# Altium footprint library spd1502.PcbLib: 80 footprints (part 1 of 5)
Each footprint in its own frame and in the unit in brackets; x right, y up, seen from the top. Pads: shape width x height; smd on the part's side, far side on the other; paste and mask are expansions set on the pad; w line width, h text height; cw(c..) or ccw(c..) is an arc to the next point about the centre after c.
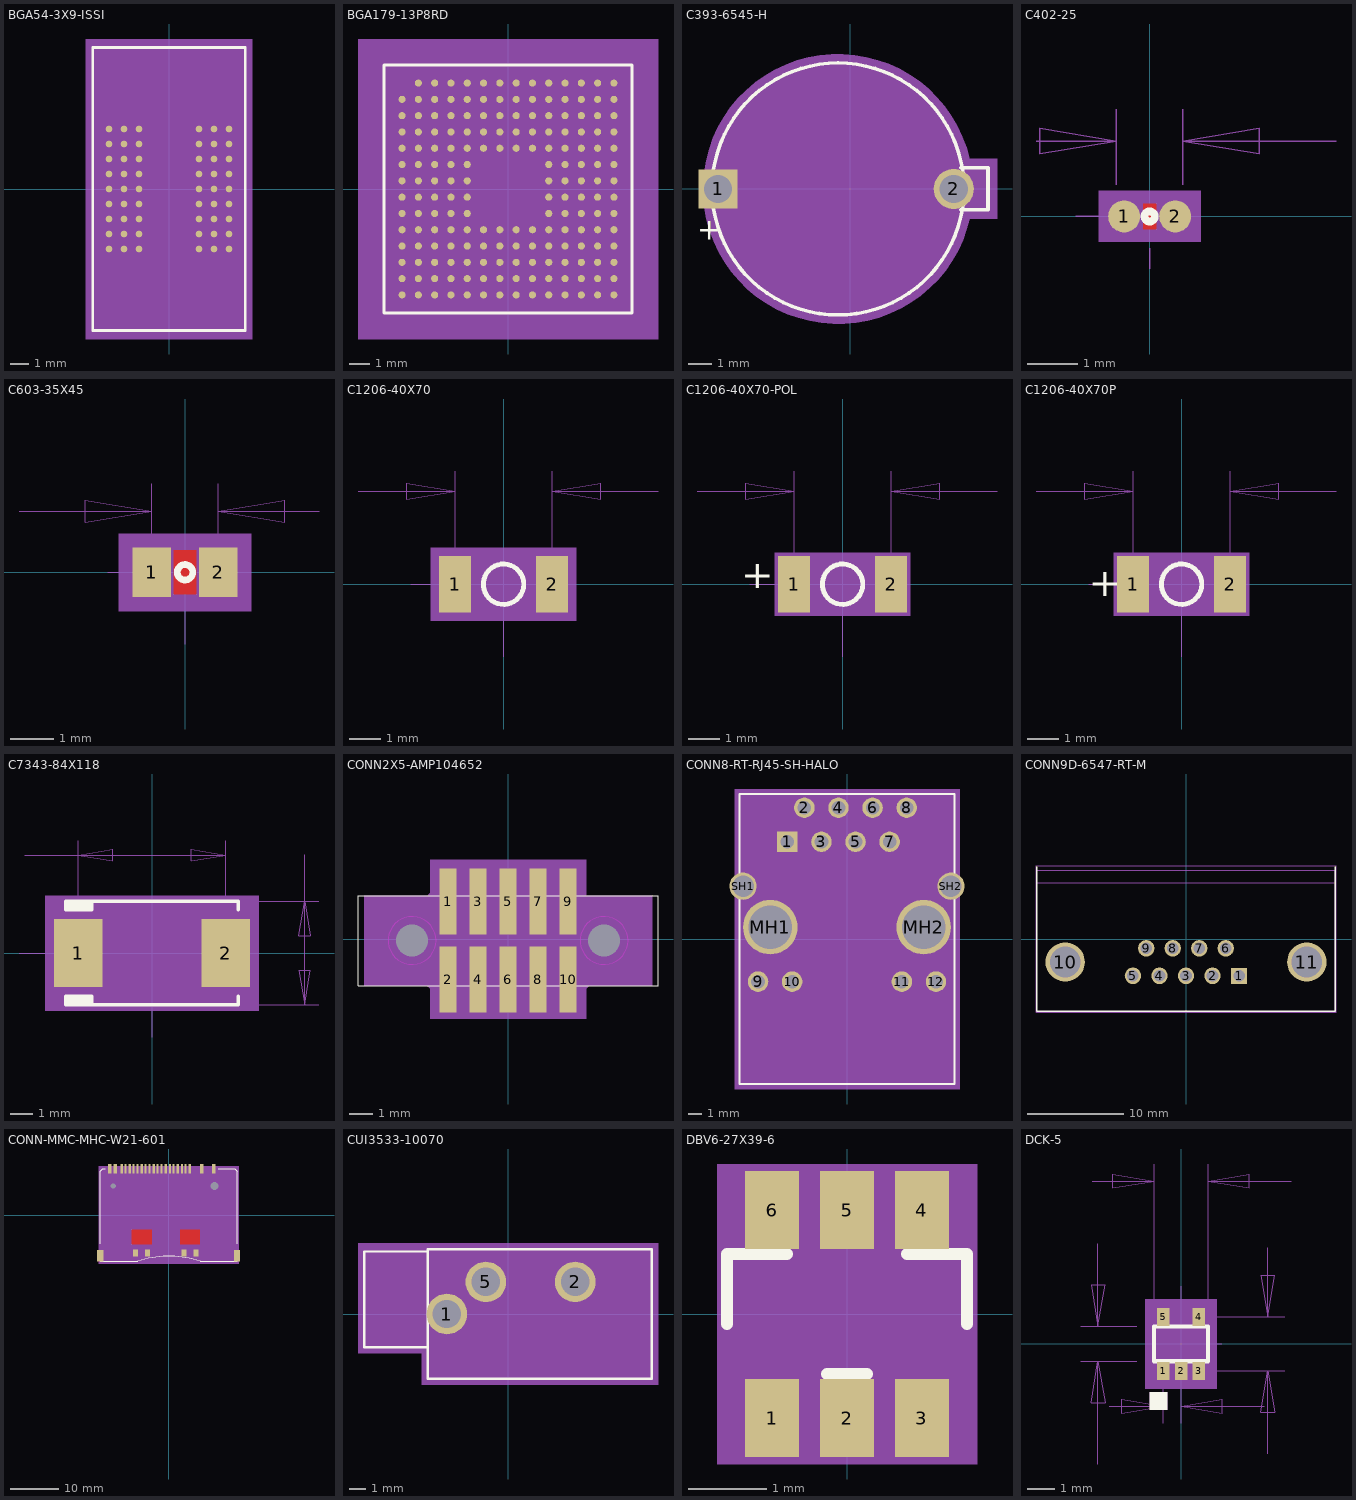
[diagram p0: the footprints below, top view; thin cyan lines are the x and y axes]

## BGA54-3X9-ISSI [mil] "BGA54-3X9-ISSI"
pads (54):
  round 13.8 smd: A1(-126,126) A2(-94.5,126) A3(-63,126) A7(63,126) A8(94.5,126) A9(126,126) B1(-126,94.5) B2(-94.5,94.5) B3(-63,94.5) B7(63,94.5) B8(94.5,94.5) B9(126,94.5) C1(-126,63) C2(-94.5,63) C3(-63,63) C7(63,63) C8(94.5,63) C9(126,63) D1(-126,31.5) D2(-94.5,31.5) D3(-63,31.5) D7(63,31.5) D8(94.5,31.5) D9(126,31.5) E1(-126,0) E2(-94.5,0) E3(-63,0) E7(63,0) E8(94.5,0) E9(126,0) F1(-126,-31.5) F2(-94.5,-31.5) F3(-63,-31.5) F7(63,-31.5) F8(94.5,-31.5) F9(126,-31.5) G1(-126,-63) G2(-94.5,-63) G3(-63,-63) G7(63,-63) G8(94.5,-63) G9(126,-63) H1(-126,-94.5) H2(-94.5,-94.5) H3(-63,-94.5) H7(63,-94.5) H8(94.5,-94.5) H9(126,-94.5) J1(-126,-126) J2(-94.5,-126) J3(-63,-126) J7(63,-126) J8(94.5,-126) J9(126,-126)
Top Overlay:
  lines w6: -160,-297 160,-297 160,297 -160,297 -160,-297
  text ".Designator" at 45,354.9 h35
Mechanical 15:
  text "J9" at 126,-142 h20
  text "A9" at 126,110 h20
  text "C7" at 63,47 h20
  text "E7" at 63,-16 h20
  text "D3" at -63,15.5 h20
  text "B3" at -63,78.5 h20
  text "A7" at 63,110 h20
  text "H3" at -63,-110.5 h20
  text "H2" at -94.5,-110.5 h20
  text "H1" at -126,-110.5 h20
  text "G3" at -63,-79 h20
  text "F1" at -126,-47.5 h20
  text "H9" at 126,-110.5 h20
  text "G2" at -94.5,-79 h20
  text "F2" at -94.5,-47.5 h20
  text "G7" at 63,-79 h20
  text "F8" at 94.5,-47.5 h20
  text "F9" at 126,-47.5 h20
  text "G8" at 94.5,-79 h20
  text "G9" at 126,-79 h20
  text "H8" at 94.5,-110.5 h20
  text "H7" at 63,-110.5 h20
  text "J8" at 94.5,-142 h20
  text "E8" at 94.5,-16 h20
  text "F3" at -63,-47.5 h20
  text "J7" at 63,-142 h20
  text "J3" at -63,-142 h20
  text "J2" at -94.5,-142 h20
  text "G1" at -126,-79 h20
  text "F7" at 63,-47.5 h20
  text "D8" at 94.5,15.5 h20
  text "B2" at -94.5,78.5 h20
  text "C1" at -126,47 h20
  text "C2" at -94.5,47 h20
  text "D1" at -126,15.5 h20
  text "E1" at -126,-16 h20
  text "E9" at 126,-16 h20
  text "D9" at 126,15.5 h20
  text "A2" at -94.5,110 h20
  text "B1" at -126,78.5 h20
  text "D2" at -94.5,15.5 h20
  text "C8" at 94.5,47 h20
  text "C9" at 126,47 h20
  text "B8" at 94.5,78.5 h20
  text "B9" at 126,78.5 h20
  text "A8" at 94.5,110 h20
  text "D7" at 63,15.5 h20
  text "C3" at -63,47 h20
  text "B7" at 63,78.5 h20
  text "J1" at -126,-142 h20
  text "E3" at -63,-16 h20
  text "A1" at -126,110 h20
  text "A3" at -63,110 h20
  text "E2" at -94.5,-16 h20
Mechanical 16:
  region: 175,315 -175,315 -175,-315 175,-315
  lines w6: -160,-297 -160,297 160,297 160,-297 -160,-297

## BGA179-13P8RD [mil] "BGA179-13P8RD"
pads (179):
  round 13.8 smd: A2(-173.3,204.8) A3(-141.8,204.8) A4(-110.3,204.8) A5(-78.8,204.8) A6(-47.3,204.8) A7(-15.8,204.8) A8(15.8,204.8) A9(47.3,204.8) A10(78.8,204.8) A11(110.3,204.8) A12(141.8,204.8) A13(173.3,204.8) A14(204.8,204.8) B1(-204.8,173.3) B2(-173.3,173.3) B3(-141.8,173.3) B4(-110.3,173.3) B5(-78.8,173.3) B6(-47.3,173.3) B7(-15.8,173.3) B8(15.8,173.3) B9(47.3,173.3) B10(78.8,173.3) B11(110.3,173.3) B12(141.8,173.3) B13(173.3,173.3) B14(204.8,173.3) C1(-204.8,141.8) C2(-173.3,141.8) C3(-141.8,141.8) C4(-110.3,141.8) C5(-78.8,141.8) C6(-47.3,141.8) C7(-15.8,141.8) C8(15.8,141.8) C9(47.3,141.8) C10(78.8,141.8) C11(110.3,141.8) C12(141.8,141.8) C13(173.3,141.8) C14(204.8,141.8) D1(-204.8,110.3) D2(-173.3,110.3) D3(-141.8,110.3) D4(-110.3,110.3) D5(-78.8,110.3) D6(-47.3,110.3) D7(-15.8,110.3) D8(15.8,110.3) D9(47.3,110.3) D10(78.8,110.3) D11(110.3,110.3) D12(141.8,110.3) D13(173.3,110.3) D14(204.8,110.3) E1(-204.8,78.8) E2(-173.3,78.8) E3(-141.8,78.8) E4(-110.3,78.8) E5(-78.8,78.8) E6(-47.3,78.8) E7(-15.8,78.8) E8(15.8,78.8) E9(47.3,78.8) E10(78.8,78.8) E11(110.3,78.8) E12(141.8,78.8) E13(173.3,78.8) E14(204.8,78.8) F1(-204.8,47.3) F2(-173.3,47.3) F3(-141.8,47.3) F4(-110.3,47.3) F5(-78.8,47.3) F10(78.8,47.3) F11(110.3,47.3) F12(141.8,47.3) F13(173.3,47.3) F14(204.8,47.3) G1(-204.8,15.8) G2(-173.3,15.8) G3(-141.8,15.8) G4(-110.3,15.8) G5(-78.8,15.8) G10(78.8,15.8) G11(110.3,15.8) G12(141.8,15.8) G13(173.3,15.8) G14(204.8,15.8) H1(-204.8,-15.8) H2(-173.3,-15.8) H3(-141.8,-15.8) H4(-110.3,-15.8) H5(-78.8,-15.8) H10(78.8,-15.8) H11(110.3,-15.8) H12(141.8,-15.8) H13(173.3,-15.8) H14(204.8,-15.8) J1(-204.8,-47.3) J2(-173.3,-47.3) J3(-141.8,-47.3) J4(-110.3,-47.3) J5(-78.8,-47.3) J10(78.8,-47.3) J11(110.3,-47.3) J12(141.8,-47.3) J13(173.3,-47.3) J14(204.8,-47.3) K1(-204.8,-78.8) K2(-173.3,-78.8) K3(-141.8,-78.8) K4(-110.3,-78.8) K5(-78.8,-78.8) K6(-47.3,-78.8) K7(-15.8,-78.8) K8(15.8,-78.8) K9(47.3,-78.8) K10(78.8,-78.8) K11(110.3,-78.8) K12(141.8,-78.8) K13(173.3,-78.8) K14(204.8,-78.8) L1(-204.8,-110.3) L2(-173.3,-110.3) L3(-141.8,-110.3) L4(-110.3,-110.3) L5(-78.8,-110.3) L6(-47.3,-110.3) L7(-15.8,-110.3) L8(15.8,-110.3) L9(47.3,-110.3) L10(78.8,-110.3) L11(110.3,-110.3) L12(141.8,-110.3) L13(173.3,-110.3) L14(204.8,-110.3) M1(-204.8,-141.8) M2(-173.3,-141.8) M3(-141.8,-141.8) M4(-110.3,-141.8) M5(-78.8,-141.8) M6(-47.3,-141.8) M7(-15.8,-141.8) M8(15.8,-141.8) M9(47.3,-141.8) M10(78.8,-141.8) M11(110.3,-141.8) M12(141.8,-141.8) M13(173.3,-141.8) M14(204.8,-141.8) N1(-204.8,-173.3) N2(-173.3,-173.3) N3(-141.8,-173.3) N4(-110.3,-173.3) N5(-78.8,-173.3) N6(-47.3,-173.3) N7(-15.8,-173.3) N8(15.8,-173.3) N9(47.3,-173.3) N10(78.8,-173.3) N11(110.3,-173.3) N12(141.8,-173.3) N13(173.3,-173.3) N14(204.8,-173.3) P1(-204.8,-204.8) P2(-173.3,-204.8) P3(-141.8,-204.8) P4(-110.3,-204.8) P5(-78.8,-204.8) P6(-47.3,-204.8) P7(-15.8,-204.8) P8(15.8,-204.8) P9(47.3,-204.8) P10(78.8,-204.8) P11(110.3,-204.8) P12(141.8,-204.8) P13(173.3,-204.8) P14(204.8,-204.8)
Top Overlay:
  lines w6: -240,-240 -240,240 240,240 240,-240 -240,-240
  text ".Designator" at 200,-245 h35
Mechanical 15:
  text "H11" at 122.3,-15.8 h10
  text "L4" at -102.3,-110.3 h10
  text "K9" at 55.3,-78.8 h10
  text "M8" at 23.8,-141.8 h10
  text "P7" at -7.8,-204.8 h10
  text "P5" at -70.8,-204.8 h10
  text "K1" at -196.8,-78.8 h10
  text "H3" at -133.8,-15.8 h10
  text "G3" at -133.8,15.8 h10
  text "C3" at -133.8,141.8 h10
  text "H5" at -70.8,-15.8 h10
  text "J3" at -133.8,-47.3 h10
  text "E10" at 90.8,78.8 h10
  text "D5" at -70.8,110.3 h10
  text "E9" at 55.3,78.8 h10
  text "D7" at -7.8,110.3 h10
  text "A11" at 122.3,204.8 h10
  text "B10" at 90.8,173.3 h10
  text "C9" at 55.3,141.8 h10
  text "D10" at 90.8,110.3 h10
  text "B12" at 153.8,173.3 h10
  text "B4" at -102.3,173.3 h10
  text "F1" at -196.8,47.3 h10
  text "N2" at -165.3,-173.3 h10
  text "P2" at -165.3,-204.8 h10
  text "N1" at -196.8,-173.3 h10
  text "P1" at -196.8,-204.8 h10
  text "N9" at 55.3,-173.3 h10
  text "M3" at -133.8,-141.8 h10
  text "K5" at -70.8,-78.8 h10
  text "N10" at 90.8,-173.3 h10
  text "K4" at -102.3,-78.8 h10
  text "M5" at -70.8,-141.8 h10
  text "N14" at 216.8,-173.3 h10
  text "M13" at 185.3,-141.8 h10
  text "C2" at -165.3,141.8 h10
  text "B1" at -196.8,173.3 h10
  text "A2" at -165.3,204.8 h10
  text "E4" at -102.3,78.8 h10
  text "F4" at -102.3,47.3 h10
  text "B11" at 122.3,173.3 h10
  text "D11" at 122.3,110.3 h10
  text "C7" at -7.8,141.8 h10
  text "F11" at 122.3,47.3 h10
  text "C5" at -70.8,141.8 h10
  text "E5" at -70.8,78.8 h10
  text "B9" at 55.3,173.3 h10
  text "C11" at 122.3,141.8 h10
  text "E13" at 185.3,78.8 h10
  text "B14" at 216.8,173.3 h10
  text "E12" at 153.8,78.8 h10
  text "C13" at 185.3,141.8 h10
  text "K7" at -7.8,-78.8 h10
  text "M10" at 90.8,-141.8 h10
  text "G5" at -70.8,15.8 h10
  text "J13" at 185.3,-47.3 h10
  text "P9" at 55.3,-204.8 h10
  text "H1" at -196.8,-15.8 h10
  text "J12" at 153.8,-47.3 h10
  text "D2" at -165.3,110.3 h10
  text "K12" at 153.8,-78.8 h10
  text "N12" at 153.8,-173.3 h10
  text "G2" at -165.3,15.8 h10
  text "M6" at -39.3,-141.8 h10
  text "A5" at -70.8,204.8 h10
  text "B6" at -39.3,173.3 h10
  text "P12" at 153.8,-204.8 h10
  text "C8" at 23.8,141.8 h10
  text "G10" at 90.8,15.8 h10
  text "P11" at 122.3,-204.8 h10
  text "L10" at 90.8,-110.3 h10
  text "A12" at 153.8,204.8 h10
  text "N11" at 122.3,-173.3 h10
  text "D1" at -196.8,110.3 h10
  text "E14" at 216.8,78.8 h10
  text "L9" at 55.3,-110.3 h10
  text "M9" at 55.3,-141.8 h10
  text "A7" at -7.8,204.8 h10
  text "B5" at -70.8,173.3 h10
  text "L6" at -39.3,-110.3 h10
  text "G12" at 153.8,15.8 h10
  text "K13" at 185.3,-78.8 h10
  text "K11" at 122.3,-78.8 h10
  text "J4" at -102.3,-47.3 h10
  text "A9" at 55.3,204.8 h10
  text "C4" at -102.3,141.8 h10
  text "K14" at 216.8,-78.8 h10
  text "M2" at -165.3,-141.8 h10
  text "K2" at -165.3,-78.8 h10
  text "L7" at -7.8,-110.3 h10
  text "L1" at -196.8,-110.3 h10
  text "G1" at -196.8,15.8 h10
  text "N7" at -7.8,-173.3 h10
  text "J10" at 90.8,-47.3 h10
  text "M11" at 122.3,-141.8 h10
  text "M4" at -102.3,-141.8 h10
  text "J11" at 122.3,-47.3 h10
  text "J5" at -70.8,-47.3 h10
  text "N8" at 23.8,-173.3 h10
  text "L14" at 216.8,-110.3 h10
  text "B2" at -165.3,173.3 h10
  text "A6" at -39.3,204.8 h10
  text "B7" at -7.8,173.3 h10
  text "C10" at 90.8,141.8 h10
  text "B8" at 23.8,173.3 h10
  text "A13" at 185.3,204.8 h10
  text "C12" at 153.8,141.8 h10
  text "A14" at 216.8,204.8 h10
  text "B13" at 185.3,173.3 h10
  text "F5" at -70.8,47.3 h10
  text "L8" at 23.8,-110.3 h10
  text "F2" at -165.3,47.3 h10
  text "L13" at 185.3,-110.3 h10
  text "N3" at -133.8,-173.3 h10
  text "L5" at -70.8,-110.3 h10
  text "L12" at 153.8,-110.3 h10
  text "M7" at -7.8,-141.8 h10
  text "E11" at 122.3,78.8 h10
  text "L11" at 122.3,-110.3 h10
  text "D12" at 153.8,110.3 h10
  text "H12" at 153.8,-15.8 h10
  text "D13" at 185.3,110.3 h10
  text "M14" at 216.8,-141.8 h10
  text "D14" at 216.8,110.3 h10
  text "J14" at 216.8,-47.3 h10
  text "G4" at -102.3,15.8 h10
  text "P3" at -133.8,-204.8 h10
  text "A10" at 90.8,204.8 h10
  text "P6" at -39.3,-204.8 h10
  text "N4" at -102.3,-173.3 h10
  text "P4" at -102.3,-204.8 h10
  text "M1" at -196.8,-141.8 h10
  text "D3" at -133.8,110.3 h10
  text "E8" at 23.8,78.8 h10
  text "C1" at -196.8,141.8 h10
  text "K8" at 23.8,-78.8 h10
  text "K6" at -39.3,-78.8 h10
  text "K3" at -133.8,-78.8 h10
  text "D8" at 23.8,110.3 h10
  text "L3" at -133.8,-110.3 h10
  text "D4" at -102.3,110.3 h10
  text "L2" at -165.3,-110.3 h10
  text "J1" at -196.8,-47.3 h10
  text "G11" at 122.3,15.8 h10
  text "N5" at -70.8,-173.3 h10
  text "P10" at 90.8,-204.8 h10
  text "H4" at -102.3,-15.8 h10
  text "A3" at -133.8,204.8 h10
  text "B3" at -133.8,173.3 h10
  text "E2" at -165.3,78.8 h10
  text "C6" at -39.3,141.8 h10
  text "H14" at 216.8,-15.8 h10
  text "H13" at 185.3,-15.8 h10
  text "E7" at -7.8,78.8 h10
  text "E1" at -196.8,78.8 h10
  text "F3" at -133.8,47.3 h10
  text "D6" at -39.3,110.3 h10
  text "J2" at -165.3,-47.3 h10
  text "H2" at -165.3,-15.8 h10
  text "K10" at 90.8,-78.8 h10
  text "P8" at 23.8,-204.8 h10
  text "N6" at -39.3,-173.3 h10
  text "H10" at 90.8,-15.8 h10
  text "P14" at 216.8,-204.8 h10
  text "G13" at 185.3,15.8 h10
  text "G14" at 216.8,15.8 h10
  text "P13" at 185.3,-204.8 h10
  text "N13" at 185.3,-173.3 h10
  text "M12" at 153.8,-141.8 h10
  text "F10" at 90.8,47.3 h10
  text "A4" at -102.3,204.8 h10
  text "A8" at 23.8,204.8 h10
  text "E6" at -39.3,78.8 h10
  text "E3" at -133.8,78.8 h10
  text "D9" at 55.3,110.3 h10
  text "C14" at 216.8,141.8 h10
  text "F13" at 185.3,47.3 h10
  text "F14" at 216.8,47.3 h10
  text "F12" at 153.8,47.3 h10
Mechanical 16:
  region: -290,290 290,290 290,-290 -290,-290
  lines w1: -240,-240 -240,240 240,240 240,-240 -240,-240
Mechanical 17:
  text "PART#" at 1,-226 h40
  text "TOL" at 51,-276 h40
  text "TMS320VC5509GHH (179 Pin BGA)" at 1,-176 h40

## C393-6545-H [mil] "C393-6545-H"
pads (2):
  rect 65x65 hole 47: 1(-220,0)
  round 67 hole 47: 2(173,0)
Top Overlay:
  circle w6: c-20,0 r210
  lines w6: 185,-35 230,-35 230,35 185,35
  text "+" at -255,-85 h35
Mechanical 15:
  text "2" at 183,0 h25
  text "1" at -210,0 h25
Mechanical 16:
  circle w1: c-20,0 r210
  region: 199.4,49.9 199.38,49.89 194.18,68.82 187.36,87.23 178.96,104.97 169.05,121.91 157.69,137.92 144.99,152.88 131.03,166.68 115.92,179.21 99.77,190.37 82.71,200.09 64.88,208.28 46.39,214.88 27.4,219.85 8.05,223.14 -11.51,224.74 -31.14,224.62 -50.68,222.8 -69.99,219.28 -88.92,214.08 -107.33,207.26 -125.07,198.86 -142.01,188.95 -158.02,177.59 -172.98,164.89 -186.78,150.93 -199.31,135.82 -210.47,119.67 -220.19,102.61 -228.38,84.78 -234.98,66.29 -239.95,47.3 -243.24,27.95 -244.84,8.39 -244.72,-11.24 -242.9,-30.78 -239.38,-50.09 -234.18,-69.02 -227.36,-87.43 -218.96,-105.17 -209.05,-122.11 -197.69,-138.12 -184.99,-153.08 -171.03,-166.88 -155.92,-179.41 -139.77,-190.57 -122.71,-200.29 -104.88,-208.48 -86.39,-215.08 -67.4,-220.05 -48.05,-223.34 -28.49,-224.94 -8.86,-224.82 10.68,-223 29.99,-219.48 48.92,-214.28 67.33,-207.46 85.07,-199.06 102.01,-189.15 118.02,-177.79 132.98,-165.09 146.78,-151.13 159.31,-136.02 170.47,-119.87 180.19,-102.81 188.38,-84.98 194.98,-66.49 199.4,-50 245,-50 245,50 199.5,50
  lines w1: 185,-35 230,-35 230,35 185,35
Mechanical 17:
  text "X" at -80,-150 h25
  text "X" at -100,-150 h25
  text ".33F" at -120,-150 h25
  text "+" at -300,-80 h50
  text ".Designator" at -220,0 h25

## C402-25 [mil] "C402-25"
pads (2):
  round 25 smd: 1(-20,0) 2(20,0)
Top Layer:
  region: -5,-10 -5,10 5,10 5,-10
Top Overlay:
  circle w6: c0,0 r4
Mechanical 15:
  text "2" at 12,0 h20
  text "1" at -28,0 h20
Mechanical 16:
  region: -40,20 40,20 40,-20 -40,-20
  lines w1: -89,59 -26,59 ; -58,0 -25,0 ; -26,25 -26,84 ; 0,-41 0,-25 ; 26,25 26,84 ; 146,59 26,59 ; -26,59 -86,69 -86,49 -26,59 ; 26,59 86,49 86,69 26,59 ; -20,-10 -20,10 20,10 20,-10 -20,-10
Mechanical 17:
  text "USERPART#" at 0,-150 h25
  text "TOLERANCE" at 0,-100 h25
  text "0.1uF" at 0,0 h25
  text ".Designator" at -40,-15 h25
Mechanical 24:
  text "0" at -92,-13 h25
  text "0" at -8,-84 h25
  text ".052" at -189,46 h25
  text "C402-35X32" at -123,-138 h25
  text "PAD 35X32 OV" at -123,-188 h25

## C603-35X45 [mil] "C603-35X45"
pads (2):
  rrect0% 35x45 smd: 1(-30,0) 2(30,0)
Top Layer:
  region: -10,20 10,20 10,-20 -10,-20
Top Overlay:
  circle w6: c0,0 r7
  text ".Designator" at 40,20 h35
Mechanical 15:
  text "2" at 35,6 h20
  text "1" at -25,6 h20
Mechanical 16:
  region: -60,35 60,35 60,-35 -60,-35
  lines w1: -150,55 -30,55 ; -70,0 -25,0 ; -30,25 -30,80 ; 0,-65 0,-25 ; 30,25 30,80 ; 121,55 30,55 ; -30,55 -90,65 -90,45 -30,55 ; 30,55 90,45 90,65 30,55 ; -55,-30 -55,30 55,30 55,-30 -55,-30
Multi-Layer:
  region: -30,25 30,25 30,-25 -30,-25
Mechanical 17:
  text "X" at 50,-10 h40
  text "X" at 15,-15 h40
  text ".22uF" at -20,-15 h40
Mechanical 20:
  text "0" at -140,-20 h40
  text "0" at -20,-135 h40
  text ".060" at 151,35 h40
  text "C603-35X45" at -150,150 h40
  text "SP  35X45OV" at -160,-345 h40
  text "SM  43X53OV" at -160,-275 h40
  text "PAD 35X45OV" at -160,-200 h40

## C1206-40X70 [mil] "C1206-40X70"
pads (2):
  rrect0% 40x70 smd: 1(-60,0) 2(60,0)
Top Overlay:
  circle w6: c0,0 r25
Mechanical 15:
  text "2" at 44,0 h40
  text "1" at -76,0 h40
Mechanical 16:
  circle w1: c0,0 r25
  region: -90,45 90,45 90,-45 -90,-45
  lines w1: -180,115 -60,115 ; -115,0 -25,0 ; -60,25 -60,140 ; 0,-90 0,-25 ; 60,25 60,140 ; 191,115 60,115 ; -60,115 -120,125 -120,105 -60,115 ; 60,115 120,105 120,125 60,115
Multi-Layer:
  region: -35,35 35,35 35,-35 -35,-35
Mechanical 17:
  text "X" at 40,-15 h40
  text "X" at 0,-15 h40
  text "22 uF" at -35,-15 h40
  text ".Designator" at -64,50 h40
Mechanical 20:
  text "0" at -175,-25 h40
  text "0" at -25,-150 h40
  text ".120" at 206,105 h40
  text "C1206-40X70" at -76,205 h40
  text "SP  40X70OV" at -66,-375 h40
  text "SM  48X78" at -84,-300 h40
  text "PAD 40X70OV" at -66,-225 h40

## C1206-40X70-POL [mil] "C1206-40X70-POL"
pads (2):
  rrect0% 40x70 smd: 1(-60,0) 2(60,0)
Top Overlay:
  circle w6: c0,0 r25
  text "+" at -125,-5 h35
Mechanical 15:
  text "2" at 60,-16 h40
  text "1" at -60,-16 h40
Mechanical 16:
  circle w1: c0,0 r25
  region: -84,-39 84,-39 84,39 -84,39
  lines w1: -180,115 -60,115 ; -115,0 -25,0 ; -60,25 -60,140 ; 0,-90 0,-25 ; 60,25 60,140 ; 191,115 60,115 ; -60,115 -120,125 -120,105 -60,115 ; 60,115 120,105 120,125 60,115
Multi-Layer:
  region: -35,35 35,35 35,-35 -35,-35
Mechanical 17:
  text "+" at -115,-15 h40
  text "X" at 40,-15 h40
  text "X" at 0,-15 h40
  text "10uF" at -35,-15 h40
  text ".Designator" at 0,-14 h40
Mechanical 20:
  text "0" at -175,-25 h40
  text "0" at -25,-150 h40
  text ".120" at 206,105 h40
  text "C1206-40X70" at 100,29 h40
  text "SP  40X70OV" at 110,-551 h40
  text "SM  48X78" at 60,-444 h40
  text "PAD 40X70OV" at 110,-401 h40

## C1206-40X70P [mil] "C1206-40X70P"
pads (2):
  rrect0% 40x70 smd: 1(-60,0) 2(60,0)
Top Overlay:
  circle w6: c0,0 r25
  text "+" at -115,-15 h35
Mechanical 15:
  text "2" at 60,16 h40
  text "1" at -60,16 h40
Mechanical 16:
  circle w1: c0,0 r25
  region: -84,-39 84,-39 84,39 -84,39
  lines w1: -180,115 -60,115 ; -115,0 -25,0 ; -60,25 -60,140 ; 0,-90 0,-25 ; 60,25 60,140 ; 191,115 60,115 ; -60,115 -120,125 -120,105 -60,115 ; 60,115 120,105 120,125 60,115
Multi-Layer:
  region: -35,35 35,35 35,-35 -35,-35
Mechanical 17:
  text "+" at -115,35 h40
  text "X" at 40,-15 h40
  text "X" at 0,-15 h40
  text "33uF" at -35,-15 h40
  text ".Designator" at 0,114 h40
Mechanical 20:
  text "0" at -175,-25 h40
  text "0" at -25,-150 h40
  text ".120" at 206,105 h40
  text "C1206-40X70" at 100,381 h40
  text "SP  40X70OV" at 110,-199 h40
  text "SM  48X78" at 60,-156 h40
  text "PAD 40X70OV" at 110,-49 h40

## C7343-84X118 [mil] "C7343-84X118"
pads (2):
  rect 84x118 smd: 1(-128,0) 2(128,0)
Top Overlay:
  lines w6: -150,85 -105,85 -105,80 -150,80 -150,75 ; -105,-80 -150,-80 -150,-85 -105,-85 -105,-90 ; 150,-75 150,-90 -150,-90 ; 150,75 150,90 -150,90 ; -150,-90 -105,-90 ; -150,-90 -150,-75 ; -150,-90 -150,-75 ; -150,-75 -105,-75 -105,-90 ; -150,75 -105,75 ; -150,75 -150,90 ; -150,75 -105,75 ; -150,75 -150,90 ; -150,90 -105,90 -105,75
  text ".Designator" at -195,-55 h35
Mechanical 15:
  text "2" at 109,-25 h40
  text "1" at -216,25 h40
Mechanical 16:
  region: -185,100 185,100 185,-100 -185,-100
  lines w1: -231,0 -25,0 ; -221,170 -128,170 ; -135,90 -135,-90 -130,-90 -130,90 -125,90 -125,-90 -115,-90 -115,90 -120,90 -120,-90 -140,-90 -140,90 -110,90 -110,-90 -145,-90 -145,90 -105,90 -105,-90 -150,-90 ; -128,25 -128,195 ; 0,-146 0,-25 ; 128,25 128,195 ; 175,-90 290,-90 ; 175,90 290,90 ; 265,171 265,90 ; -150,-90 -150,90 150,90 150,-90 -150,-90 ; -128,170 128,170 ; -128,170 -68,160 -68,180 -128,170 ; 128,170 68,180 68,160 128,170 ; 265,-90 275,-30 255,-30 265,-90 ; 265,-90 265,90 ; 265,90 255,30 275,30 265,90
Mechanical 17:
  text "X" at -25,-70 h40
  text "X" at -75,-70 h40
  text "100uF" at -120,-70 h40
Mechanical 20:
  text "0" at -305,-20 h40
  text "0" at -20,-220 h40
  text ".256" at -445,150 h40
  text ".180" at 275,175 h40
  text "C7343-84X118" at -300,400 h40
  text "SP  84X118REC" at -300,-450 h40
  text "SM  92X126REC" at -300,-375 h40
  text "PAD 84X118REC" at -300,-300 h40

## CONN2X5-AMP104652 [mil] "CONN2X5-AMP104652"
pads (12):
  rect 29x110 smd: 1(-100,62.5) 2(-100,-67.5) 3(-50,62.5) 4(-50,-67.5) 5(0,62.5) 6(0,-67.5) 7(50,62.5) 8(50,-67.5) 9(100,62.5) 10(100,-67.5)
  round 40 / inner round 84 / far side round 40 hole 53: " "(-160,-2.5) " "(160,-2.5)
Top Overlay:
  lines w1: -250,-77.5 -250,72.5 250,72.5 250,-77.5 -250,-77.5
  text ".Designator" at -270,-67.5 h35
Mechanical 15:
  text "2" at -100,-75.5 h20
  text "10" at 100,-83.5 h20
  text "9" at 100,54.5 h20
  text "1" at -100,54.5 h20
  text "8" at 50,-75.5 h20
  text "7" at 50,54.5 h20
  text "4" at -50,-75.5 h20
  text "5" at 0,54.5 h20
  text "3" at -50,54.5 h20
  text "6" at 0,-75.5 h20
Mechanical 16:
  region: -240,72.5 -135,72.5 -130,77.5 -130,132.5 130,132.5 130,72.5 240,72.5 240,-77.5 135,-77.5 130,-82.5 130,-132.5 -130,-132.5 -130,-82.5 -135,-77.5 -240,-77.5
  lines w1: -225,-62.5 -225,57.5 225,57.5 225,-62.5 -225,-62.5
Multi-Layer keep-out:
  circle w1: c160,-2.5 r40
  circle w1: c-160,-2.5 r40
Mechanical 17:
  text "PART#" at 565,-102.5 h40
  text "TOL" at 565,-52.5 h40
  text "100562-0005" at 565,-2.5 h40
Mechanical 20:
  text "CONN2X13-35x55-pass" at -450,647.5 h60
  text "PAD 35x55rec" at -393.5,-753 h60

## CONN8-RT-RJ45-SH-HALO [mil] "CONN8-RT-RJ45-SH-HALO"
pads (16):
  rect 60x60 hole 40: 1(-175,285)
  round 60 hole 40: 2(-125,385) 3(-75,285) 4(-25,385) 5(25,285) 6(75,385) 7(125,285) 8(175,385) 9(-261,-125) 10(-161,-125) 11(161,-125) 12(261,-125)
  round 160 hole 128: MH1(-225,35) MH2(225,35)
  round 80 hole 63: SH1(-305,155) SH2(305,155)
Top Overlay:
  lines w6: -315,-425 -315,425 315,425 315,-425 -315,-425
Mechanical 15:
  text "MH1" at -177,50 h40
  text "MH2" at 273,70 h40
  text "7" at 141,300 h40
  text "8" at 191,420 h40
  text "SH2" at 353,170 h40
  text "SH1" at -257,190 h40
  text "5" at 41,300 h40
  text "4" at -9,420 h40
  text "12" at 293,-125 h40
  text "1" at -159,300 h40
  text "2" at -109,420 h40
  text "3" at -59,300 h40
  text "10" at -129,-125 h40
  text "6" at 91,420 h40
  text "11" at 193,-125 h40
  text "9" at -245,-125 h40
Mechanical 16:
  region: -330,440 330,440 330,-440 -330,-440
  lines w6: -315,-425 315,-425 315,425 -315,425 -315,-425
Mechanical 17:
  text ".Designator" at -76,-194 h40

## CONN9D-6547-RT-M [mil] "CONN9D-6547-RT-M"
pads (11):
  rect 65x65 hole 47: 1(216,-150)
  round 67 hole 47: 2(108,-150) 3(0,-150) 4(-108,-150) 5(-216,-150) 6(162,-38) 7(54,-38) 8(-54,-38) 9(-162,-38)
  round 160 hole 125: 10(-492,-94) 11(492,-94)
Top Overlay:
  lines w6: -607,294 -607,-94 -607,-294 607,-294 607,-94 607,294
  text ".Designator" at -134,-350 h35
Mechanical 15:
  text "1" at 186,-150 h75
  text "4" at -138,-150 h75
  text "6" at 132,-38 h75
  text "9" at -192,-38 h75
  text "5" at -246,-150 h75
  text "7" at 24,-38 h75
  text "8" at -84,-38 h75
  text "3" at -30,-150 h75
  text "2" at 78,-150 h75
  text "10" at -552,-94 h75
  text "11" at 432,-94 h75
Mechanical 16:
  lines w1: -607,230 607,230 ; -611,-298 -611,298 611,298 611,-298 -611,-298 ; -607,-294 -607,-94 -607,280 607,280 607,-94 607,-294 -607,-294

## CONN-MMC-MHC-W21-601 [mil] "CONN-MMC-MHC-W21-601"
pads (30):
  rect 28x79 smd: 1(268.3,378.2) 9(366.7,378.2) 14(-484.7,378.2) 15(-437.4,378.2)
  rect 20x79 smd: 2(169.8,378.2) 3(71.4,378.2) 4(-27,378.2) 5(-125.4,378.2) 6(-223.9,378.2) 7(-319.3,378.2) 8(-386.3,378.2)
  rect 40x60 smd: 10(220,-308.1) 11(121.6,-308.1) 12(-173.7,-308.1) 13(-272.1,-308.1)
  rect 16.7x79 smd: 16(-288.6,378.2) 17(-257.3,378.2) 18(-190.4,378.2) 19(-60.5,378.2) 20(6.5,378.2) 21(38,378.2) 22(104.9,378.2) 23(136.4,378.2) 24(-352.8,378.2) 25(-158.9,378.2) 26(-92,378.2)
  rect 51x94 smd: 27(554.7,-329.1) 28(-559.5,-329.1)
  round 20 / inner round 73 / far side round 20 hole 43: " "(-455.2,238.1)
  round 40 / inner round 93 / far side round 40 hole 63: " "(371.6,238.1)
Top Layer:
  region: 90.1,-238.7 90.1,-118.7 252.1,-118.7 252.1,-238.7
  region: -303.9,-238.7 -303.9,-118.7 -141.9,-118.7 -141.9,-238.7
Top Overlay:
  lines w6: -559.5,-374.8 -255.9,-374.8 ; -559.5,-232.4 -559.5,357.7 -559,358.2 ; -559.5,358.2 -559.5,358.7 -540.3,377.9 -519.6,377.9 ; -255.89,-374.83 cw(c0.1,-1181.9) 256,-374.8 554.7,-374.8 ; 401.6,377.9 535.5,377.9 554.7,358.7 554.7,-232.4
Mechanical 15:
  text "25" at -170.9,378.2 h15
  text "26" at -104,378.2 h15
  text "3" at 65.4,378.2 h15
  text "21" at 26,378.2 h15
  text "18" at -202.4,378.2 h15
  text "6" at -229.9,378.2 h15
  text "28" at -571.5,-329.1 h15
  text "27" at 542.7,-329.1 h15
  text "5" at -131.4,378.2 h15
  text "20" at -5.5,378.2 h15
  text "2" at 163.8,378.2 h15
  text "17" at -269.3,378.2 h15
  text "13" at -284.1,-308.1 h15
  text "12" at -185.7,-308.1 h15
  text "11" at 109.6,-308.1 h15
  text "10" at 208,-308.1 h15
  text "8" at -392.3,378.2 h15
  text "23" at 124.4,378.2 h15
  text "22" at 92.9,378.2 h15
  text "7" at -325.3,378.2 h15
  text "4" at -33,378.2 h15
  text "19" at -72.5,378.2 h15
  text "15" at -449.4,378.2 h15
  text "14" at -496.7,378.2 h15
  text "1" at 262.3,378.2 h15
  text "16" at -300.6,378.2 h15
  text "9" at 360.7,378.2 h15
  text "24" at -364.8,378.2 h15
Mechanical 16:
  region: -570.8,-397.7 -570.8,397.6 570.9,397.6 570.9,-397.7
  lines w3.9: -529.5,-374.8 524.7,-374.8 524.7,279.6 -529.5,279.6 -529.5,-374.8
Mechanical 17:
  text ".Designator" at -59.6,3.9 h50

## CUI3533-10070 [mil] "CUI3533-10070"
pads (3):
  round 100 hole 70: 1(-150.5,0) 2(165.5,79) 5(-54.5,79)
Top Overlay:
  lines w6: -197.5,-82 -354.5,-82 -354.5,154 -197.5,154 ; -197.5,-159 -197.5,159 354.5,159 354.5,-159 -197.5,-159
  text ".Designator" at -75.5,210 h35
Mechanical 15:
  text "1" at -150.5,-20 h25
  text "5" at -54.5,59 h25
  text "2" at 165.5,59 h25
Mechanical 16:
  region: -369.5,174 369.5,174 369.5,-174 -212.5,-174 -212.5,-97 -369.5,-97
  lines w1: -197.5,-82 -354.5,-82 -354.5,154 -197.5,154 ; -197.5,-159 354.5,-159 354.5,159 -197.5,159 -197.5,6 -197.5,-159

## DBV6-27X39-6 [mil] "DBV6-27X39-6"
pads (6):
  rect 27x39 smd: 1(-37.4,-52) 2(0,-52) 3(37.4,-52) 4(37.4,52) 5(0,52) 6(-37.4,52)
Top Overlay:
  lines w6: -60,-5 -60,30 -30,30 ; -10,-30 10,-30 ; 30,30 60,30 60,-5
  text ".Designator" at -75,30 h35
Mechanical 15:
  text "3" at 37.4,-68 h40
  text "2" at 0,-68 h40
  text "4" at 37.4,36 h40
  text "5" at 0,36 h40
  text "1" at -37.4,-68 h40
  text "6" at -37.4,36 h40
Mechanical 16:
  region: -65,-75 65,-75 65,75 -65,75
  lines w1: -60,-10 -60,30 ; -30,30 -60,30 ; -10,-30 10,-30 ; 30,30 60,30 ; 60,-10 60,30 ; -60,30 60,30 ; -60,30 -60,-30 60,-30 60,30
Multi-Layer:
  region: -20,20 20,20 20,-65 -20,-65
Mechanical 17:
  text "TPS3808G09DBVRG4" at -20,5 h40
  text "X" at 15,5 h40
  text "X" at 50,5 h40

## DCK-5 [mil] "DCK-5"
pads (5):
  rect 18.1x26 smd: 1(-25.6,-39) 2(0,-39) 3(25.6,-39) 4(25.6,39) 5(-25.6,39)
Top Overlay:
  pour cut-out: -45,-95 -20,-95 -20,-70 -45,-70
  lines w6: -39,-25.2 -39,25.2 39,25.2 39,-25.2 -39,-25.2
  text ".Designator" at 75,-10 h35
Mechanical 15:
  text "3" at 41.6,-39 h40
  text "2" at 16,-39 h40
  text "5" at -9.6,39 h40
  text "1" at -9.6,-39 h40
  text "4" at 41.6,39 h40
Mechanical 16:
  pour cut-out: -45,-95 -20,-95 -20,-70 -45,-70
  region: -51.6,64.6 51.6,64.6 51.6,-64.6 -51.6,-64.6
  lines w1: -144.9,-25.2 -64.2,-25.2 ; -144.9,25.2 -64.2,25.2 ; -128.4,235 -39,235 ; -120.1,-173.6 -120.1,-25.2 ; -120.1,144.9 -120.1,25.2 ; -103.5,-90.2 -25.6,-90.2 ; -39,50 -39,259.8 ; -25.6,-115 -25.6,-64.2 ; 0,-115 0,-64.2 ; 0,25.2 0,83.5 ; 25.2,0 58.7,0 ; 39,50 39,259.8 ; 50.8,-39 150,-39 ; 50.8,39 150,39 ; 120.1,-90.2 0,-90.2 ; 125.2,-159.1 125.2,-39 ; 125.2,138.6 125.2,39 ; 159.1,235 39,235 ; -120.1,-25.2 -129.9,-85 -109.8,-85 -120.1,-25.2 ; -120.1,25.2 -109.8,85 -129.9,85 -120.1,25.2 ; -39,235 -98.8,244.9 -98.8,225.2 -39,235 ; -25.6,-90.2 -85.4,-79.9 -85.4,-100 -25.6,-90.2 ; 0,-90.2 59.8,-100 59.8,-79.9 0,-90.2 ; 39,235 98.8,225.2 98.8,244.9 39,235 ; 125.2,-39 115,-98.8 135,-98.8 125.2,-39 ; 125.2,39 135,98.8 115,98.8 125.2,39
  lines w6: -39,-25.2 -39,25.2 39,25.2 39,-25.2 -39,-25.2
Mechanical 17:
  text "PART#" at -116.1,-120.9 h40.2
  text "TOL" at -55.9,85.8 h40.2
  text "SN74LVC1G32DCKRG4" at -101.2,40.9 h40.2
Mechanical 20:
  text "0" at 85,-15 h29.9
  text "0" at -15,109.8 h29.9
  text ".078" at -305.1,220.1 h29.9
  text ".050" at -194.9,-229.9 h29.9
  text ".078" at 50,165 h29.9
  text ".026" at -279.9,-105.1 h29.9